# Altium footprint library lib_passives.PcbLib: 13 footprints
Each footprint in its own frame and in the unit in brackets; x right, y up, seen from the top. Pads: shape width x height; smd on the part's side, far side on the other; paste and mask are expansions set on the pad; w line width, h text height; cw(c..) or ccw(c..) is an arc to the next point about the centre after c.
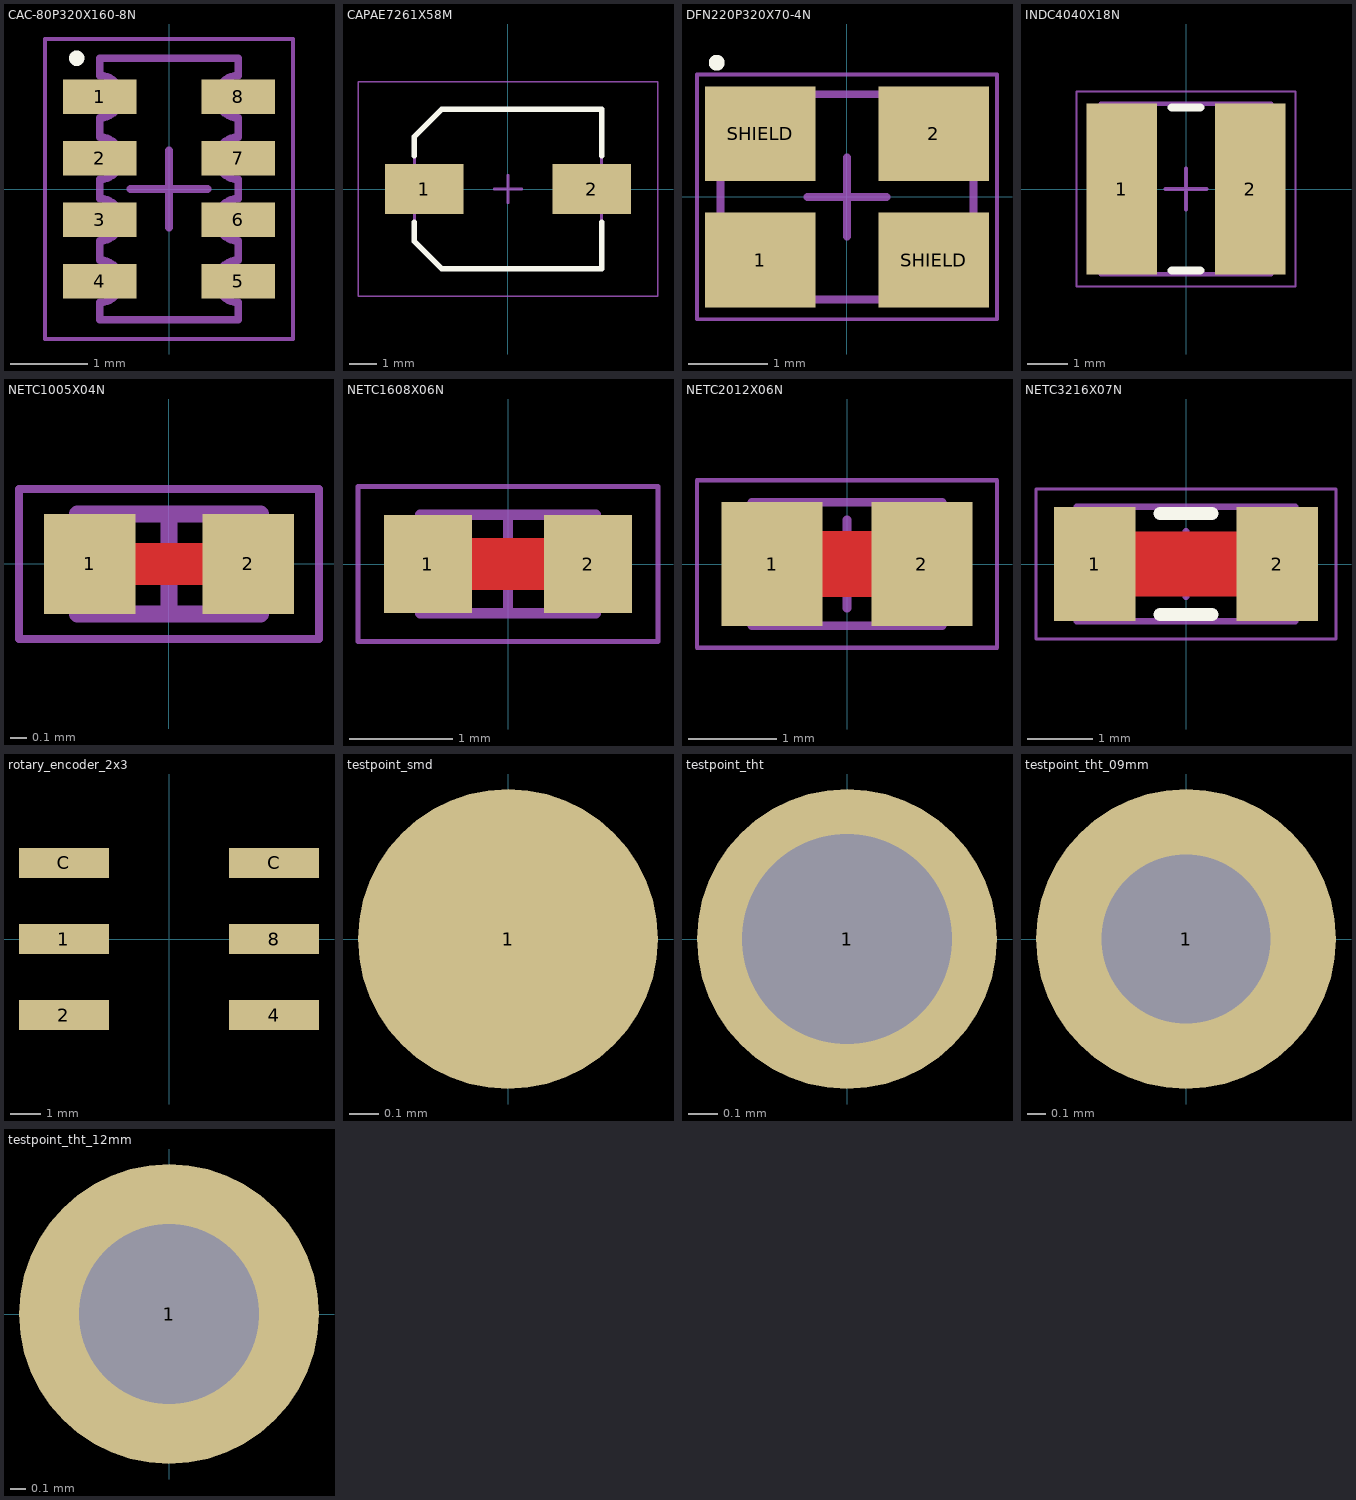
[diagram p0: the footprints below, top view; thin cyan lines are the x and y axes]

## CAC-80P320X160-8N [mm] "Chip Array, Concave, 8-Leads, Pitch 0.80mm,  Body 3.20x1.60mm,  IPC Medium Density"
height 0.6
pads (8):
  rect 0.95x0.45 smd: 1(-0.9,1.2) 2(-0.9,0.4) 3(-0.9,-0.4) 4(-0.9,-1.2) 5(0.9,-1.2) 6(0.9,-0.4) 7(0.9,0.4) 8(0.9,1.2)
Top Overlay:
  circle w0.1: c-1.2,1.7 r0.05
Mechanical 13:
  lines w0.1: -0.9,-1.7 0.9,-1.7 0.9,-1.475 cw(c0.9,-1.2) 0.9,-0.925 0.9,-0.675 cw(c0.9,-0.4) 0.9,-0.125 0.9,0.125 cw(c0.9,0.4) 0.9,0.675 0.9,0.925 cw(c0.9,1.2) 0.9,1.475 0.9,1.7 -0.9,1.7 -0.9,1.475 cw(c-0.9,1.2) -0.9,0.925 -0.9,0.675 cw(c-0.9,0.4) -0.9,0.125 -0.9,-0.125 cw(c-0.9,-0.4) -0.9,-0.675 -0.9,-0.925 cw(c-0.9,-1.2) -0.9,-1.475 -0.9,-1.7
Mechanical 15:
  lines w0.05: -1.61,-1.95 1.61,-1.95 1.61,1.95 -1.61,1.95 -1.61,-1.95
  lines w0.1: -0.5,0 0.5,0 ; 0,-0.5 0,0.5
3D body "CAC-80P320X160-8N.step": height 0.6, standoff 0, extent -0.95,-1.7 0.95,1.7

## CAPAE7261X58M [mm] "Wurth WCAP-PSLP 6.3mm"
height 5.8
pads (2):
  rect 2.85x1.8 smd: 1(-3.05,0) 2(3.05,0)
Top Overlay:
  lines w0.2: -3.4,-1.2 -3.4,-1.9 -2.4,-2.9 3.4,-2.9 3.4,-1.2 ; -3.4,1.2 -3.4,1.9 -2.4,2.9 3.4,2.9 3.4,1.2
Mechanical 13:
  lines w0.1: -3.4,-1.9 -2.4,-2.9 3.4,-2.9 3.4,2.9 -2.4,2.9 -3.4,1.9 -3.4,-1.9
Mechanical 15:
  lines w0.05: -5.45,-3.9 -5.45,3.9 5.45,3.9 5.45,-3.9 -5.45,-3.9
  lines w0.1: -0.5,0 0.5,0 ; 0,-0.5 0,0.5
3D body "CAPAE7261X58M.step": height 5.8, standoff 0, extent -3.625,-2.9 3.625,2.9

## DFN220P320X70-4N [mm] "DFN, 4-Leads, Body 2.50x3.20mm, Pitch 2.20mm, IPC Medium Density"
height 0.7
pads (4):
  rect 1.4x1.2 smd: 1(-1.1,-0.8) 2(1.1,0.8) SHIELD(-1.1,0.8) SHIELD(1.1,-0.8)
Top Overlay:
  circle w0.1: c-1.65,1.7 r0.05
Mechanical 13:
  lines w0.1: -1.6,-1.3 1.6,-1.3 1.6,1.3 -1.6,1.3 -1.6,-1.3
Mechanical 15:
  lines w0.05: -1.9,-1.55 1.9,-1.55 1.9,1.55 -1.9,1.55 -1.9,-1.55
  lines w0.1: -0.5,0 0.5,0 ; 0,-0.5 0,0.5
3D body: height 0.7, standoff 0, extent -1.7,-1.35 1.7,1.35

## INDC4040X18N [mm] "Chip Inductor, 2-Leads, Body 4.00x4.00mm, IPC Medium Density"
height 1.8
pads (2):
  rect 1.73x4.22 smd: 1(-1.585,0) 2(1.585,0)
Top Overlay:
  lines w0.2: -0.35,-2.01 0.35,-2.01 ; -0.35,2.01 0.35,2.01
Mechanical 13:
  lines w0.1: -2.1,-2.1 -2.1,2.1 2.1,2.1 2.1,-2.1 -2.1,-2.1
Mechanical 15:
  lines w0.05: -2.7,-2.4 -2.7,2.4 2.7,2.4 2.7,-2.4 -2.7,-2.4
  lines w0.1: -0.5,0 0.5,0 ; 0,-0.5 0,0.5
3D body "INDC4040X18N.step": height 1.8, standoff 0, extent -2.1,-2.1 2.1,2.1

## NETC1005X04N [mm] "Chip Resistor, 2-Leads, Body 1.05x0.54mm, IPC Medium Density"
height 0.4
pads (2):
  rect 0.55x0.6 smd: 1(-0.475,0) 2(0.475,0)
Top Layer:
  lines w0.25: -0.475,0 0.475,0
Mechanical 13:
  lines w0.1: -0.55,-0.3 0.55,-0.3 0.55,0.3 -0.55,0.3 -0.55,-0.3
Mechanical 15:
  lines w0.05: -0.9,-0.45 0.9,-0.45 0.9,0.45 -0.9,0.45 -0.9,-0.45
  lines w0.1: -0.3,0 0.3,0 ; 0,-0.3 0,0.3
3D body "RESC1005X04N.step": height 0.4, standoff 0, extent -0.55,-0.3 0.55,0.3

## NETC1608X06N [mm] "Chip Resistor, 2-Leads, Body 1.60x0.83mm, IPC Medium Density"
height 0.6
pads (2):
  rect 0.85x0.95 smd: 1(-0.775,0) 2(0.775,0)
Top Layer:
  lines w0.5: -0.775,0 0.775,0
Mechanical 13:
  lines w0.1: -0.85,-0.475 0.85,-0.475 0.85,0.475 -0.85,0.475 -0.85,-0.475
Mechanical 15:
  lines w0.05: -1.45,-0.75 1.45,-0.75 1.45,0.75 -1.45,0.75 -1.45,-0.75
  lines w0.1: -0.475,0 0.475,0 ; 0,-0.475 0,0.475
3D body "RESC1608X06N.step": height 0.6, standoff 0, extent -0.85,-0.475 0.85,0.475

## NETC2012X06N [mm] "Chip Resistor, 2-Leads, Body 2.00x1.25mm, IPC Medium Density"
height 0.65
pads (2):
  rect 1.15x1.4 smd: 1(-0.85,0) 2(0.85,0)
Top Layer:
  lines w0.75: -0.85,0 0.85,0
Mechanical 13:
  lines w0.1: -1.075,-0.7 1.075,-0.7 1.075,0.7 -1.075,0.7 -1.075,-0.7
Mechanical 15:
  lines w0.05: -1.7,-0.95 1.7,-0.95 1.7,0.95 -1.7,0.95 -1.7,-0.95
  lines w0.1: -0.5,0 0.5,0 ; 0,-0.5 0,0.5
3D body "RESC2012X06N.step": height 0.65, standoff 0, extent -1.075,-0.7 1.075,0.7

## NETC3216X07N [mm] "Chip Resistor, 2-Leads, Body 3.20x1.60mm, IPC Medium Density"
height 0.71
pads (2):
  rect 1.25x1.75 smd: 1(-1.4,0) 2(1.4,0)
Top Layer:
  lines w1: -1.4,0 1.4,0
Top Overlay:
  lines w0.2: -0.4,-0.775 0.4,-0.775 ; -0.4,0.775 0.4,0.775
Mechanical 13:
  lines w0.1: -1.675,-0.875 1.675,-0.875 1.675,0.875 -1.675,0.875 -1.675,-0.875
Mechanical 15:
  lines w0.05: -2.3,-1.15 2.3,-1.15 2.3,1.15 -2.3,1.15 -2.3,-1.15
  lines w0.1: -0.5,0 0.5,0 ; 0,-0.5 0,0.5
3D body "RESC3216X07N.step": height 0.71, standoff 0, extent -1.675,-0.875 1.675,0.875

## rotary_encoder_2x3 [mm]
pads (6):
  rect 3x1 smd: 1(-3.5,0) 2(-3.5,-2.54) 4(3.5,-2.54) 8(3.5,0) C(-3.5,2.54) C(3.5,2.54)
3D body "P25SMT_103x.stp": height 2.56, standoff 0.05, extent -4.9,-3.5 4.9,3.5

## testpoint_smd [mil] "Surfacemount testpoint"
pads (1):
  round 40 smd: 1(0,0)

## testpoint_tht [mil] "Throughhole testpoint"
pads (1):
  round 40 hole 28: 1(0,0)

## testpoint_tht_09mm [mm] "Throughhole testpoint"
pads (1):
  round 1.6 hole 0.9: 1(0,0)

## testpoint_tht_12mm [mm] "Throughhole testpoint"
pads (1):
  round 2 hole 1.2: 1(0,0)